# Altium schematic symbol library RPSLib_PMIC.SchLib: 32 symbols (part 1 of 2)
Pins are listed as number, name and electrical type; pins without a type are passive.

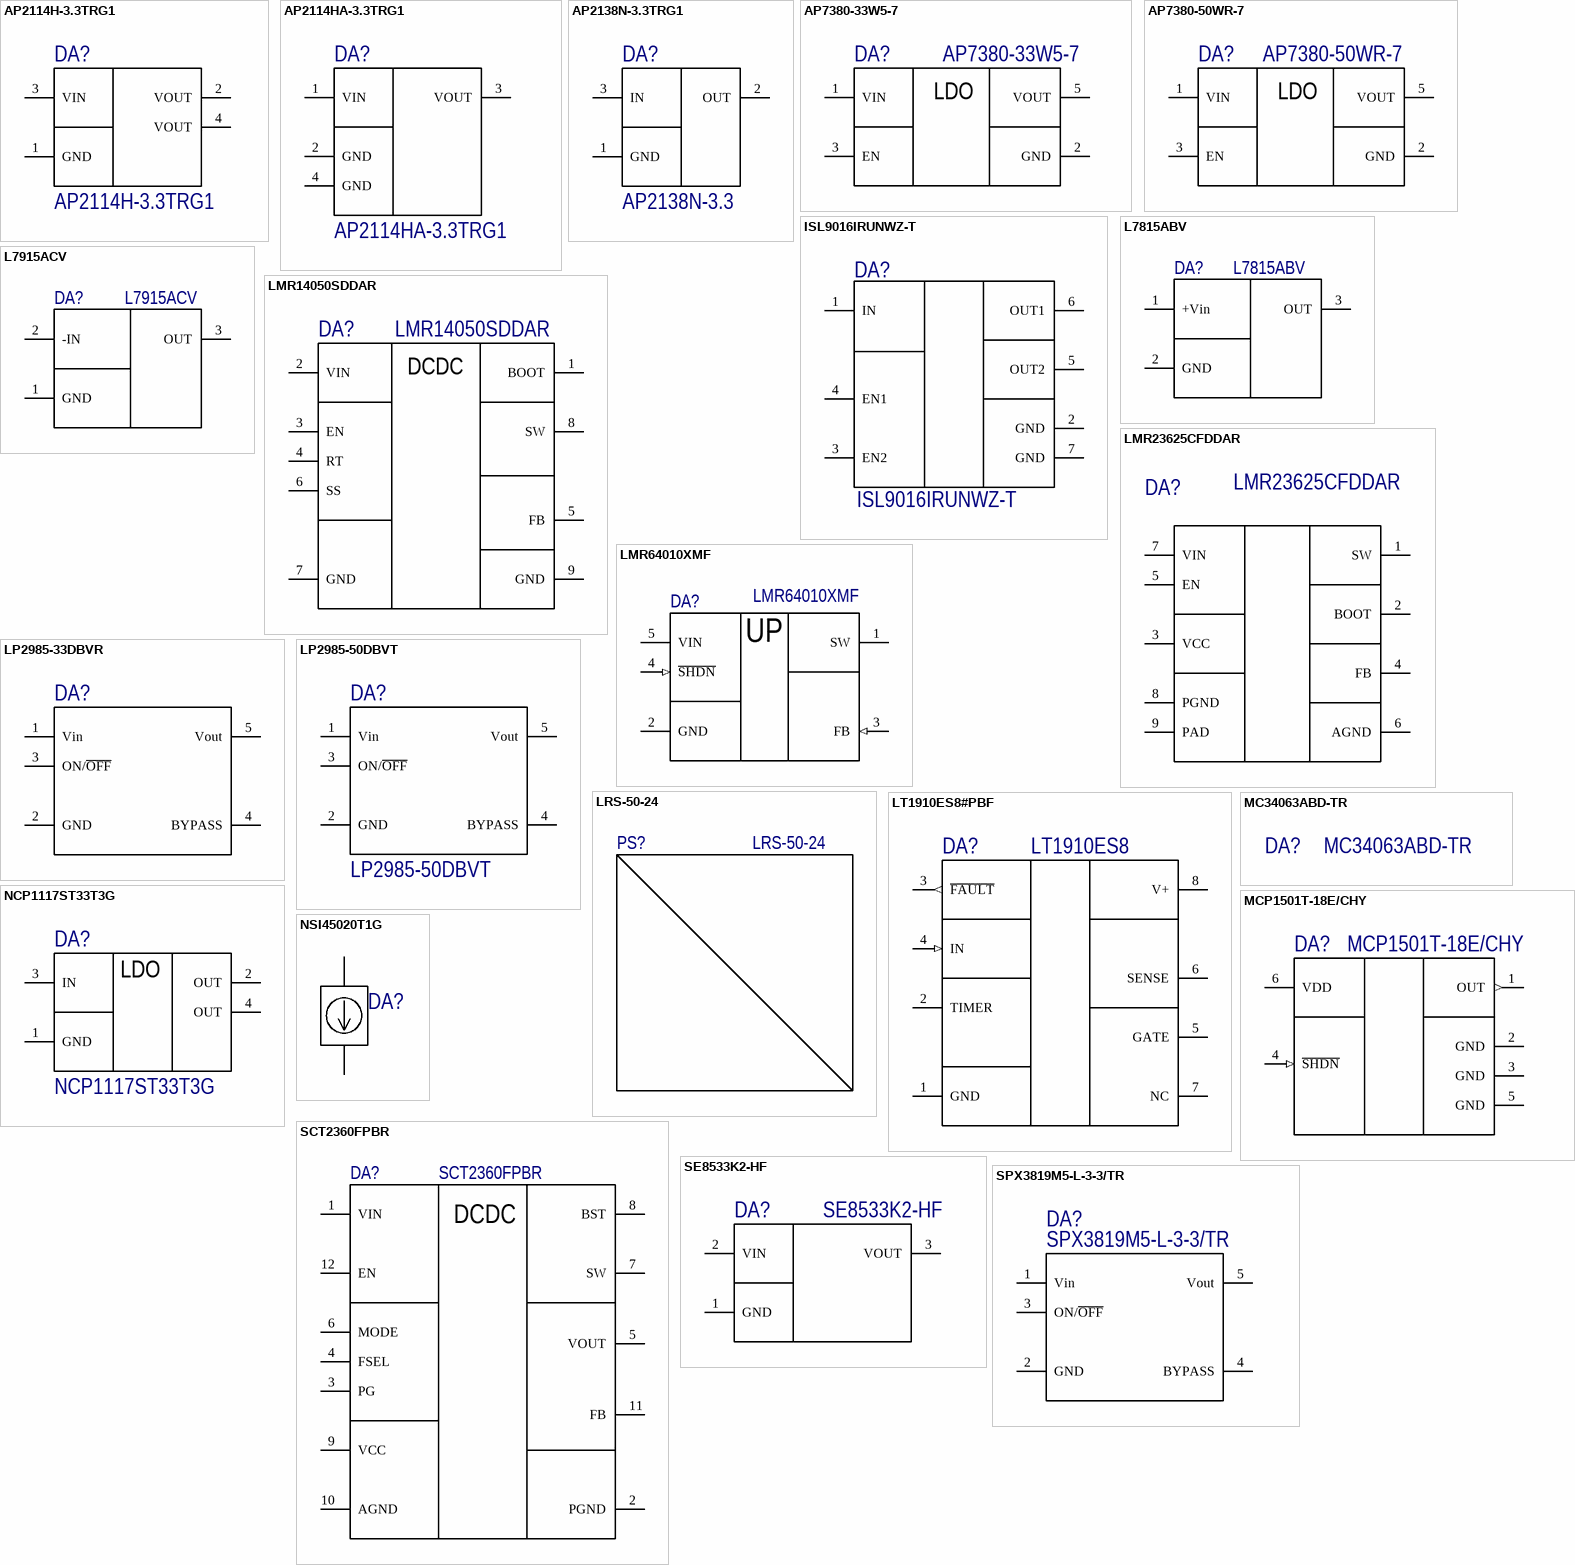
[diagram p0: symbols AP2114H-3.3TRG1 to SPX3819M5-L-3-3/TR]

## AP2114H-3.3TRG1
designator DA?
IC REG LDO 3.3V 1A SOT223; Manufacturer: Diodes; Number of Outputs: 1; Min Input Voltage: 2.5V; Max Input Voltage: 6V; Dropout Voltage: 450mV; Polarity: Positive; Quiescent Current: 65uA; Accuracy: 1.5%; Power Supply Rejection Ratio (PSRR): 65dB; Output Type: Fixed; Supplier 1: Digi-Key; Manufacturer Part Number: AP2114H-3.3TRG1; Stock 1: 59384; Pricing 1: 1=0.36, 10=0.293, 100=0.1994, 500=0.14956, 1000=0.11218 (USD); Mount: Surface Mount; Case/Package: SOT-223; Number of Pins: 3; Weight: 0.000282oz; Min Operating Temperature: -40°C; Max Operating Temperature: 85°C; Packaging: Tape and Reel; Output Voltage: 3.3V; Package Quantity: 4000; Output Current: 1A; Number of Regulators: 1; Max Output Current: 1A; Length: 6.7mm; Height: 1.7mm; Width: 3.7mm; Lead Free: Lead Free; Supplier Part Number 1: AP2114H-3.3TRG1DICT-ND; РКД Наименование: *
footprint SOT230P700X180-4N (SOT223, 4-Leads, Body 6,50x7,00mm (avg), Pitch 2,30mm, IPC Medium Density)
pins: 1 GND, 2 VOUT, 3 VIN, 4 VOUT

## AP2114HA-3.3TRG1
designator DA?
IC REG LDO 3.3V 1A SOT223; Manufacturer: Diodes; Dropout Voltage: 450mV; Number of Regulators: 1; Polarity: Positive; Quiescent Current: 90uA; Accuracy: 1.5%; Min Input Voltage: 2.5V; Max Input Voltage: 6V; Output Type: Fixed; Supplier 1: Digi-Key; Manufacturer Part Number: AP2114HA-3.3TRG1; Stock 1: 1692; Pricing 1: 1=0.36, 10=0.293, 100=0.1994, 500=0.14956, 1000=0.11218 (USD); Mount: Surface Mount; Case/Package: TO-261-4; Number of Pins: 3; Contact Plating: Tin; Min Operating Temperature: -40°C; Max Operating Temperature: 85°C; Packaging: Tape and Reel; Package Quantity: 4000; Output Voltage: 3.3V; Output Current: 1A; Max Output Current: 1A; Number of Outputs: 1; Supplier Part Number 1: AP2114HA-3.3TRG1DICT-ND; РКД Наименование: *
footprint SOT230P700X180-4N (SOT223, 4-Leads, Body 6,50x7,00mm (avg), Pitch 2,30mm, IPC Medium Density)
pins: 1 VIN, 2 GND, 3 VOUT, 4 GND

## AP2138N-3.3TRG1
designator DA?, comment AP2138N-3.3
IC REG LINEAR 3.3V 250MA SOT23-3; Manufacturer: Diodes; Manufacturer Part Number: AP2138N-3.3TRG1; Number of Outputs: 1; Min Input Voltage: 2.5V; Max Input Voltage: 6.6V; Dropout Voltage: 400mV; Quiescent Current: 1uA; Polarity: Positive; Accuracy: 2%; Output Type: Fixed; Supplier 1: Digi-Key; RoHS: Yes; Category: Voltage Regulators - Linear; Stock 1: 158339; Pricing 1: 1=0,36000, 10=0,28800, 25=0,26400, 100=0,17790, 250=0,14728, 500=0,13500, 1000=0,10124 (USD); Mount: Surface Mount; Case/Package: SOT-23-3; Number of Pins: 3; Weight: 0.000282oz; Min Operating Temperature: -40°C; Max Operating Temperature: 85°C; Packaging: Tape and Reel; Output Voltage: 3.3V; Package Quantity: 3000; Output Current: 250mA; Number of Regulators: 1; Max Output Current: 250mA; Length: 3.02mm; Height: 1.3mm; Width: 1.7mm; Lead Free: Lead Free; ComponentLink1URL: https://datasheet.ciiva.com/29568/ap2138-9-29568816.pdf?src-supplier=Digi-Key; ComponentLink1Description: https://datasheet.ciiva.com/29568/ap2138-9-29568816.pdf?src-supplier=Digi-Key; ComponentLink2URL: https://datasheet.ciiva.com/30016/ap2138-9-30016777.pdf?src-supplier=Avnet; ComponentLink2Description: https://datasheet.ciiva.com/30016/ap2138-9-30016777.pdf?src-supplier=Avnet; ComponentLink3URL: https://datasheet.ciiva.com/29569/ap2138-9-29569022.pdf?src-supplier=Digi-Key; ComponentLink3Description: https://datasheet.ciiva.com/29569/ap2138-9-29569022.pdf?src-supplier=Digi-Key; ComponentLink4URL: https://datasheet.ciiva.com/29569/ap2138-9-29569023.pdf?src-supplier=Digi-Key; ComponentLink4Description: https://datasheet.ciiva.com/29569/ap2138-9-29569023.pdf?src-supplier=Digi-Key; Supplier Part Number 1: AP2138N-3.3TRG1DICT-ND
footprint SOT95P232X100-3N (SOT23, 3-Leads, Body 2.92x2.32mm, Pitch 0.95mm, IPC Medium Density)
pins: 1 GND (power), 2 OUT (power), 3 IN (power)

## AP7380-33W5-7
designator DA?
IC REG LINEAR 3.3V 150MA SOT25; Manufacturer: Diodes; Output Type: Fixed; Output Configuration: Positive; Number of Regulators: 1; Max Input Voltage: 24V; Dropout Voltage: 1.5V; Quiescent Current: 3uA; Supplier 1: Digi-Key; Manufacturer Part Number: AP7380-33W5-7; RoHS: No; Stock 1: 13904; Pricing 1: 1=0,42000, 10=0,34400, 25=0,31480, 100=0,21240, 250=0,17576, 500=0,16110, 1000=0,12083 (USD); Mount: Surface Mount; Case/Package: SOT-25; Min Operating Temperature: -40°C; Max Operating Temperature: 125°C; Packaging: Cut Tape; Min Output Voltage: 3.3V; Output Current: 150mA; Max Supply Current: 3uA; ComponentLink1URL: https://www.diodes.com/assets/Datasheets/AP7380.pdf?src-supplier=Digi-Key; ComponentLink1Description: https://www.diodes.com/assets/Datasheets/AP7380.pdf?src-supplier=Digi-Key; Supplier Part Number 1: AP7380-33W5-7DICT-ND
footprint SOT95P285X130-5N (SOT23, 5-Leads, Body 2,95x2,85mm, Pitch 0,95mm, IPC Medium Density)
pins: 1 VIN, 2 GND, 3 EN, 5 VOUT
text: LDO

## AP7380-50WR-7
designator DA?
IC REG LINEAR 5V 150MA SOT25; Manufacturer: Diodes; Output Type: Fixed; Output Configuration: Positive; Number of Regulators: 1; Max Input Voltage: 24V; Dropout Voltage: 1.1V; Quiescent Current: 3uA; Supplier 1: Digi-Key; Manufacturer Part Number: AP7380-50WR-7; RoHS: No; Stock 1: 8212; Pricing 1: 1=0,42000, 10=0,34400, 25=0,31480, 100=0,21240, 250=0,17576, 500=0,16110, 1000=0,12083 (USD); Mount: Surface Mount; Case/Package: SOT-25; Min Operating Temperature: -40°C; Max Operating Temperature: 125°C; Packaging: Cut Tape; Min Output Voltage: 5V; Output Current: 150mA; Max Supply Current: 3uA; ComponentLink1URL: https://www.diodes.com/assets/Datasheets/AP7380.pdf?src-supplier=Digi-Key; ComponentLink1Description: https://www.diodes.com/assets/Datasheets/AP7380.pdf?src-supplier=Digi-Key; Supplier Part Number 1: AP7380-50WR-7DICT-ND
footprint SOT95P285X130-5N (SOT23, 5-Leads, Body 2,95x2,85mm, Pitch 0,95mm, IPC Medium Density)
pins: 1 VIN, 2 GND, 3 EN, 5 VOUT
text: LDO

## ISL9016IRUNWZ-T
designator DA?
IC REG LINEAR 3.3V/1.2V 6UTDFN, OUT1 - 3.3V, OUT2 - 1.2V; Manufacturer: Intersil; Dropout Voltage: 120mV; Number of Outputs: 2; Min Input Voltage: 1.8V; Max Input Voltage: 6.5V; Output Current: 150mA; Min Current Limit: 175mA; Polarity: Positive; Quiescent Current: 49uA; Accuracy: 0.8%; Power Supply Rejection Ratio (PSRR): 80dB; Output Type: Fixed; Supplier 1: Digi-Key; Stock 1: 2211; Pricing 1: 1=1.22, 10=1.094, 25=1.0384, 100=0.8528, 250=0.79724, 500=0.70452, 1000=0.5562 (USD); Mount: Surface Mount; Number of Pins: 6; Min Operating Temperature: -40°C; Max Operating Temperature: 85°C; Package Quantity: 1; Packaging: Tape and Reel; Output Voltage: 1.2V; Number of Regulators: 2; ComponentLink1URL: http://www.intersil.com/content/dam/Intersil/documents/isl9/isl9016.pdf?src-supplier=Digi-Key; ComponentLink1Description: http://www.intersil.com/content/dam/Intersil/documents/isl9/isl9016.pdf?src-supplier=Digi-Key; ComponentLink2URL: http://www.intersil.com/content/dam/Intersil/documents/isl9/isl9016.pdf?src-supplier=Avnet; ComponentLink2Description: http://www.intersil.com/content/dam/Intersil/documents/isl9/isl9016.pdf?src-supplier=Avnet; Manufacturer Part Number: ISL9016IRUNWZ-T; Supplier Part Number 1: ISL9016IRUNWZ-TCT-ND
footprint SON50P160X55_HS-7N (SON, 6-Leads, Body 1,60x1,60mm, Pitch 0,50mm, Thermal Pad 1,00x0,43mm, IPC Medium Density)
pins: 1 IN, 2 GND, 3 EN2, 4 EN1, 5 OUT2, 6 OUT1, 7 GND

## L7815ABV
designator DA?
IC, V REG +15V, 7815, TO-220-3; Fixed Output Voltage Nom.: 15V; Adjustable Min: -; Max: -; Input; Manufacturer: STMicroelectronics; Number of Channels: 1NUMBER; Supplier 1: Digikey; Manufacturer Part Number: L7815ABV; RoHS: Yes; Category: Voltage Regulators - Linear; Stock 1: 712; Pricing 1: 1=0,74, 10=0,648, 50=0,6086, 100=0,4968, 250=0,4614, 500=0,39268, 1000=0,31415, 2500=0,2847, 5000=0,26506 (USD); ComponentLink1URL: https://datasheet.ciiva.com/27052/1389839-27052159.pdf?src-supplier=Jameco; ComponentLink1Description: https://datasheet.ciiva.com/27052/1389839-27052159.pdf?src-supplier=Jameco; ComponentLink2URL: https://datasheet.ciiva.com/4882/cd00000444-4882358.pdf?src-supplier=Mouser; ComponentLink2Description: https://datasheet.ciiva.com/4882/cd00000444-4882358.pdf?src-supplier=Mouser; ComponentLink3URL: https://datasheet.ciiva.com/1511/1805459-1511928.pdf?src-supplier=Element14; ComponentLink3Description: https://datasheet.ciiva.com/1511/1805459-1511928.pdf?src-supplier=Element14; ComponentLink4URL: https://datasheet.ciiva.com/15111/getdatasheetpartid-85268-15111499.pdf?src-supplier=Verical; ComponentLink4Description: https://datasheet.ciiva.com/15111/getdatasheetpartid-85268-15111499.pdf?src-supplier=Verical; ComponentLink5URL: https://datasheet.ciiva.com/16389/cd00000444-16389052.pdf?src-supplier=Future+Electronics; ComponentLink5Description: https://datasheet.ciiva.com/16389/cd00000444-16389052.pdf?src-supplier=Future+Electronics; ComponentLink6URL: https://datasheet.ciiva.com/2044/cd00000444-2044535.pdf?src-supplier=Digikey; ComponentLink6Description: https://datasheet.ciiva.com/2044/cd00000444-2044535.pdf?src-supplier=Digikey; ComponentLink7URL: https://datasheet.ciiva.com/41441/001185948-da-01-en-ic-reg-ldo-15v-1-5-l7815abv-to-220-3-stm-41441116.pdf?src-supplier=Conrad; ComponentLink7Description: https://datasheet.ciiva.com/41441/001185948-da-01-en-ic-reg-ldo-15v-1-5-l7815abv-to-220-3-stm-41441116.pdf?src-supplier=Conrad; Supplier Part Number 1: 497-8352-5-ND
footprint TO220-3N (TO220, 3-Leads, Pitch 1.8mm, IPC Medium Density)
pins: 1 +Vin, 2 GND, 3 OUT

## L7915ACV
designator DA?
Standard Regulator Neg -15V 1.5A 3-Pin(3+Tab) TO-220AB Tube; Manufacturer: STMicroelectronics; Number of Channels: 1NUMBER; Supplier 1: Digikey; Manufacturer Part Number: L7915ACV; RoHS: Yes; Category: Voltage Regulators - Linear; Stock 1: 1490; Pricing 1: 1=0,92, 10=0,812, 50=0,7624, 100=0,6222, 250=0,57796, 500=0,49188, 1000=0,3935, 2500=0,3566, 5000=0,33201 (USD); ComponentLink1URL: https://datasheet.ciiva.com/1511/1861950-1511995.pdf?src-supplier=Element14; ComponentLink1Description: https://datasheet.ciiva.com/1511/1861950-1511995.pdf?src-supplier=Element14; ComponentLink2URL: https://datasheet.ciiva.com/4881/cd00000450-4881846.pdf?src-supplier=Mouser; ComponentLink2Description: https://datasheet.ciiva.com/4881/cd00000450-4881846.pdf?src-supplier=Mouser; ComponentLink3URL: https://datasheet.ciiva.com/2044/cd00000451-2044293.pdf?src-supplier=Digikey; ComponentLink3Description: https://datasheet.ciiva.com/2044/cd00000451-2044293.pdf?src-supplier=Digikey; ComponentLink4URL: https://datasheet.ciiva.com/16360/cd00000451-16360455.pdf?src-supplier=Future+Electronics; ComponentLink4Description: https://datasheet.ciiva.com/16360/cd00000451-16360455.pdf?src-supplier=Future+Electronics; ComponentLink5URL: https://datasheet.ciiva.com/14561/70013922-14561974.pdf?src-supplier=Allied+Electronics; ComponentLink5Description: https://datasheet.ciiva.com/14561/70013922-14561974.pdf?src-supplier=Allied+Electronics; Supplier Part Number 1: 497-1477-5-ND
footprint TO220-3N (TO220, 3-Leads, Pitch 1.8mm, IPC Medium Density)
pins: 1 GND, 2 -IN, 3 OUT

## LMR14050SDDAR
designator DA?
IC REG BUCK ADJ 5A; Manufacturer: Texas Instruments; Quiescent Current: 40uA; Supplier 1: Digi-Key; Manufacturer Part Number: LMR14050SDDAR; RoHS: Yes; Category: Voltage Regulators - Switching; Stock 1: 2989; Pricing 1: 1=2,88000, 10=2,58900, 25=2,44720, 100=2,01220, 250=1,80556, 500=1,74028, 1000=1,44661 (USD); Min Operating Temperature: -40°C; Max Operating Temperature: 125°C; Lead Free: Lead Free; ComponentLink1URL: http://www.ti.com/general/docs/lit/getliterature.tsp?genericPartNumber=LMR14050&&fileType=pdf&src-supplier=Avnet; ComponentLink1Description: http://www.ti.com/general/docs/lit/getliterature.tsp?genericPartNumber=LMR14050&&fileType=pdf&src-supplier=Avnet; ComponentLink2URL: http://www.ti.com/lit/ds/symlink/lmr14050.pdf?src-supplier=Digi-Key; ComponentLink2Description: http://www.ti.com/lit/ds/symlink/lmr14050.pdf?src-supplier=Digi-Key; Supplier Part Number 1: 296-44322-1-ND
footprint SOIC127P600X170_HS-9N (SOIC, 8-Leads, Body 4,90x3,90mm, Pitch 1,27mm, Thermal Pad 3,10x2,40mm, IPC Medium Density)
pins: 1 BOOT, 2 VIN (power), 3 EN, 4 RT, 5 FB, 6 SS, 7 GND (power), 8 SW, 9 GND (power)
text: DCDC

## LMR23625CFDDAR
designator DA?
IC REG BUCK ADJ 2.5A SYNC 8SOPWR; Manufacturer: Texas Instruments; Quiescent Current: 75uA; Supplier 1: Digi-Key; Manufacturer Part Number: LMR23625CFDDAR; Stock 1: 5669; Pricing 1: 1=3,24000, 10=2,91200, 100=2,26370, 500=1,95782, 1000=1,62744 (USD); RoHS: No; Min Operating Temperature: -40°C; Max Operating Temperature: 125°C; Lead Free: Lead Free; ComponentLink1URL: http://www.ti.com/lit/ds/symlink/lmr23625.pdf?src-supplier=Digi-Key; ComponentLink1Description: http://www.ti.com/lit/ds/symlink/lmr23625.pdf?src-supplier=Digi-Key; ComponentLink2URL: http://www.ti.com/general/docs/suppproductinfo.tsp?distId=10&amp;gotoUrl=http%3A%2F%2Fwww.ti.com%2Flit%2Fgpn%2Flmr23625&src-supplier=Digi-Key; ComponentLink2Description: http://www.ti.com/general/docs/suppproductinfo.tsp?distId=10&amp;gotoUrl=http%3A%2F%2Fwww.ti.com%2Flit%2Fgpn%2Flmr23625&src-supplier=Digi-Key; Supplier Part Number 1: 296-47269-1-ND
footprint SOIC127P600X170_HS-9N (SOIC, 8-Leads, Body 4,90x3,90mm, Pitch 1,27mm, Thermal Pad 3,10x2,40mm, IPC Medium Density)
pins: 1 SW, 2 BOOT, 3 VCC, 4 FB, 5 EN, 6 AGND, 7 VIN, 8 PGND, 9 PAD

## LMR64010XMF
designator DA?
SIMPLE SWITCHER® 2.7V to 14V, 1A Step-Up Regulator in SOT-23 Package 5-SOT-23 -40 to 125; Manufacturer: TI National Semiconductor; Manufacturer Part Number: LMR64010XMFE/NOPB; Output Voltage: 40V; Switching Frequency: 1.6MHz; Number of Outputs: 1; Min Output Voltage: 3V; Topology: Boost; Quiescent Current: 2.1mA; Output Type: Adjustable; Synchronous Rectifier: No; Output Configuration: Positive; Supplier 1: Digi-Key; RoHS: Yes; Category: Voltage Regulators - Switching; Stock 1: 336; Pricing 1: 1=2,18000, 10=1,95800, 25=1,84720, 100=1,57370 (USD); Case/Package: SOT-23-5; Number of Pins: 5; Contact Plating: Tin,Gold,Matte; Weight: 0.000459oz; Min Operating Temperature: -40°C; Max Operating Temperature: 125°C; Packaging: Tape and Reel; Max Input Voltage: 14V; Output Current: 1A; Min Input Voltage: 2.7V; Package Quantity: 250; Max Output Current: 1A; Max Output Voltage: 40V; Series: SIMPLE SWITCHER®; Length: 3.05mm; Width: 1.75mm; Height: 1.3mm; Radiation Hardening: No; REACH SVHC: No SVHC; Lead Free: Lead Free; RoHS Compliant: Yes; Supplier Part Number 1: LMR64010XMFE/NOPBCT-ND
footprint SOT95P280X145-5N (SOT23, 5-Leads, Body 2.90x2.80mm, Pitch 0.95mm, IPC Medium Density)
pins: 1 SW, 2 GND (power), 3 FB (in), 4 ~{SHDN} (in), 5 VIN (power)
text: UP

## LP2985-33DBVR
designator DA?  (value not drawn)
IC REG LDO 3.3V 0.15A SOT23-5; Manufacturer: Texas Instruments; Number of Outputs: 1; Min Input Voltage: 2.2V; Max Input Voltage: 16V; Max Output Current: 150mA; Polarity: Positive; Output Type: Fixed; Dropout Voltage: 280mV; Input Bias Current: 850uA; Accuracy: 1.5%; РКД Наименование: LP2985-33DBVR - LDO 3.3 V, 150 mA, SOT-23; PartNo: *; Supplier 1: Digi-Key; Manufacturer Part Number: LP2985-33DBVR; Stock 1: 139813; Pricing 1: 1=0.6, 10=0.527, 100=0.4039, 500=0.3193, 1000=0.25544 (USD); Case/Package: SOT-23; Number of Pins: 5; Contact Plating: Matte,Tin; Min Operating Temperature: -40°C; Max Operating Temperature: 125°C; Output Voltage: 3.3V; Packaging: Tape and Reel; Package Quantity: 1; Output Current: 150mA; Number of Regulators: 1; Output Voltage Accuracy: 1.5%; Quiescent Current: 850uA; Nominal Output Voltage: 3.3V; Radiation Hardening: No; Lead Free: Lead Free; REACH SVHC: No SVHC; Supplier Part Number 1: 296-18476-1-ND
footprint SOT95P280X145-5N (SOT23, 5-Leads, Body 2.90x2.80mm, Pitch 0.95mm, IPC Medium Density)
pins: 1 Vin, 2 GND, 3 ON/~{OFF}, 4 BYPASS, 5 Vout

## LP2985-50DBVT
designator DA?
IC REG LINEAR 5V 150MA SOT23-5; Manufacturer: Texas Instruments; Dropout Voltage: 280mV; Max Input Voltage: 16V; Min Input Voltage: 2.2V; Number of Outputs: 1; Input Bias Current: 850uA; Polarity: Positive; Output Voltage Accuracy: 1.5%; Output Type: Fixed; Supplier 1: Digi-Key; Manufacturer Part Number: LP2985-50DBVT; RoHS: Yes; Category: Voltage Regulators - Linear; Stock 1: 2067; Pricing 1: 1=0,61000, 10=0,52500, 25=0,48960, 100=0,36380 (USD); Case/Package: SOT-23; Number of Pins: 5; Contact Plating: Tin,Matte; Min Operating Temperature: -40°C; Max Operating Temperature: 125°C; Output Voltage: 5V; Output Current: 150mA; Nominal Output Voltage: 5V; Package Quantity: 1; Max Output Current: 150mA; Packaging: Tape and Reel; Number of Regulators: 1; Quiescent Current: 850uA; Accuracy: 1.5%; Series: -; Length: 2.9mm; Width: 1.6mm; Height: 1.15mm; REACH SVHC: No SVHC; Lead Free: Lead Free; RoHS Compliant: Yes; ComponentLink1URL: https://datasheet.ciiva.com/2061/lp2985-18-2061709.pdf?src-supplier=Digi-Key; ComponentLink1Description: https://datasheet.ciiva.com/2061/lp2985-18-2061709.pdf?src-supplier=Digi-Key; ComponentLink2URL: https://datasheet.ciiva.com/2061/lp2985-18-2061710.pdf?src-supplier=Digi-Key; ComponentLink2Description: https://datasheet.ciiva.com/2061/lp2985-18-2061710.pdf?src-supplier=Digi-Key; ComponentLink3URL: https://datasheet.ciiva.com/14279/lp2985a-50-14279950.pdf?src-supplier=Avnet; ComponentLink3Description: https://datasheet.ciiva.com/14279/lp2985a-50-14279950.pdf?src-supplier=Avnet; ComponentLink4URL: https://datasheet.ciiva.com/2061/lp2985-18-2061711.pdf?src-supplier=Digi-Key; ComponentLink4Description: https://datasheet.ciiva.com/2061/lp2985-18-2061711.pdf?src-supplier=Digi-Key; Supplier Part Number 1: 296-26126-1-ND
footprint SOT95P280X145-5N (SOT23, 5-Leads, Body 2.90x2.80mm, Pitch 0.95mm, IPC Medium Density)
pins: 1 Vin, 2 GND, 3 ON/~{OFF}, 4 BYPASS, 5 Vout

## LRS-50-24
designator PS?
MeanWell блок питания
footprint LRS-50-24

## LT1910ES8#PBF
designator DA?, comment LT1910ES8
LINEAR TECHNOLOGY         LT1910ES8#PBF             MOSFET Driver IC, High Side, 8V-48V Supply, 40mA Out, 25 s Delay, SOIC-8; Manufacturer: Analog Devices / Linear Technology; Number of Outputs: 1; Min Supply Voltage: 8V; Max Supply Voltage: 48V; Turn-Off Delay Time: 100us; Turn-On Delay Time: 400us; Reference Voltage: 65mV; Max Supply Current: 2.5mA; Supplier 1: Digi-Key; Manufacturer Part Number: LT1910ES8#PBF; RoHS: Yes; Category: Gate Drivers; Stock 1: 6185; Pricing 1: 1=4,97000, 25=3,30160, 100=2,73000 (USD); Case/Package: SOIC; Number of Pins: 8; Min Operating Temperature: -40°C; Max Operating Temperature: 85°C; Package Quantity: 100; Max Output Current: 40mA; Packaging: Rail/Tube; Number of Drivers: 1; Length: 5mm; Height: 1.498mm; Width: 3.998mm; Radiation Hardening: No; REACH SVHC: No SVHC; Lead Free: Lead Free; ComponentLink1URL: https://datasheet.ciiva.com/15110/getdatasheetpartid-367278-15110233.pdf?src-supplier=Verical; ComponentLink1Description: https://datasheet.ciiva.com/15110/getdatasheetpartid-367278-15110233.pdf?src-supplier=Verical; ComponentLink2URL: https://datasheet.ciiva.com/25626/0900766b810ed968-25626635.pdf?src-supplier=RSComponents; ComponentLink2Description: https://datasheet.ciiva.com/25626/0900766b810ed968-25626635.pdf?src-supplier=RSComponents; ComponentLink3URL: https://datasheet.ciiva.com/19477/1742057-19477567.pdf?src-supplier=Jameco; ComponentLink3Description: https://datasheet.ciiva.com/19477/1742057-19477567.pdf?src-supplier=Jameco; ComponentLink4URL: https://datasheet.ciiva.com/1949/3996-1949938.pdf?src-supplier=Digi-Key; ComponentLink4Description: https://datasheet.ciiva.com/1949/3996-1949938.pdf?src-supplier=Digi-Key; ComponentLink5URL: https://datasheet.ciiva.com/1607/1843994-1607510.pdf?src-supplier=Newark; ComponentLink5Description: https://datasheet.ciiva.com/1607/1843994-1607510.pdf?src-supplier=Newark; ComponentLink6URL: https://datasheet.ciiva.com/1500/1843994-1500201.pdf?src-supplier=Element14; ComponentLink6Description: https://datasheet.ciiva.com/1500/1843994-1500201.pdf?src-supplier=Element14; ComponentLink7URL: https://datasheet.ciiva.com/7653/1843994-7653036.pdf?src-supplier=Element14; ComponentLink7Description: https://datasheet.ciiva.com/7653/1843994-7653036.pdf?src-supplier=Element14; ComponentLink8URL: https://datasheet.ciiva.com/48696/001255925-da-01-en-ic-mosfet-drive-lt1910es8-pbf-soic-8-ltc-48696183.pdf?src-supplier=Conrad; ComponentLink8Description: https://datasheet.ciiva.com/48696/001255925-da-01-en-ic-mosfet-drive-lt1910es8-pbf-soic-8-ltc-48696183.pdf?src-supplier=Conrad; Supplier Part Number 1: LT1910ES8#PBF-ND
footprint SOIC127P600X175-8N (SOIC, 8-Leads, Body 4.90x3.90mm, Pitch 1.27mm, IPC Medium Density)
pins: 1 GND (power), 2 TIMER, 3 ~{FAULT} (out), 4 IN (in), 5 GATE, 6 SENSE, 7 NC, 8 V+ (power)

## MC34063ABD-TR
designator DA?
Buck, Boost Switching Regulator IC Positive or Negative Adjustable 1.25V 1 Output 1.5A (Switch) 8-SOIC (0.154, 3.90mm Width); Manufacturer: STMicroelectronics; Number of Outputs: 1; Efficiency: 89%; Min Input Voltage: 3V; Switching Frequency: 100kHz; Synchronous Rectifier: No; Power Dissipation: 625mW; Input Current: 2.5mA; Output Type: Adjustable,Fixed; Max Input Voltage: 40V; Max Output Voltage: 38V; Supplier 1: Digi-Key; Manufacturer Part Number: MC34063ABD-TR; RoHS: Yes; Category: Voltage Regulators - Switching; Stock 1: 383; Pricing 1: 1=0,90000, 10=0,80400, 25=0,76280, 100=0,62660, 250=0,58572, 500=0,51760, 1000=0,44975 (USD); Mount: Surface Mount; Case/Package: SO; Number of Pins: 8; Min Operating Temperature: -40°C; Max Operating Temperature: 85°C; Packaging: Tape and Reel; Output Voltage: 1.25V; Output Current: 1.5A; Package Quantity: 1; Series: -; Max Output Current: 1.5A; Max Supply Voltage: 40V; Min Output Voltage: 1.25V; Switching Frequency-Max: 100kHz; Length: 5mm; Width: 4mm; Height: 1.25mm; Radiation Hardening: No; REACH SVHC: No SVHC; Lead Free: Lead Free; RoHS Compliant: Yes; ComponentLink1URL: https://datasheet.ciiva.com/7994/1723944-7994091.pdf?src-supplier=Element14; ComponentLink1Description: https://datasheet.ciiva.com/7994/1723944-7994091.pdf?src-supplier=Element14; ComponentLink2URL: https://datasheet.ciiva.com/5820/1723944-5820156.pdf?src-supplier=Farnell; ComponentLink2Description: https://datasheet.ciiva.com/5820/1723944-5820156.pdf?src-supplier=Farnell; ComponentLink3URL: https://datasheet.ciiva.com/7994/1723944-7994103.pdf?src-supplier=Element14; ComponentLink3Description: https://datasheet.ciiva.com/7994/1723944-7994103.pdf?src-supplier=Element14; ComponentLink4URL: https://datasheet.ciiva.com/7994/1723944-7994090.pdf?src-supplier=Element14; ComponentLink4Description: https://datasheet.ciiva.com/7994/1723944-7994090.pdf?src-supplier=Element14; ComponentLink5URL: https://datasheet.ciiva.com/2025/cd00001232-2025159.pdf?src-supplier=Digi-Key; ComponentLink5Description: https://datasheet.ciiva.com/2025/cd00001232-2025159.pdf?src-supplier=Digi-Key; ComponentLink6URL: https://datasheet.ciiva.com/2025/cd00001232-2025158.pdf?src-supplier=Digi-Key; ComponentLink6Description: https://datasheet.ciiva.com/2025/cd00001232-2025158.pdf?src-supplier=Digi-Key; ComponentLink7URL: https://datasheet.ciiva.com/2025/cd00001232-2025160.pdf?src-supplier=Digi-Key; ComponentLink7Description: https://datasheet.ciiva.com/2025/cd00001232-2025160.pdf?src-supplier=Digi-Key; ComponentLink8URL: https://datasheet.ciiva.com/4904/cd00001232-4904856.pdf?src-supplier=Mouser; ComponentLink8Description: https://datasheet.ciiva.com/4904/cd00001232-4904856.pdf?src-supplier=Mouser; ComponentLink9URL: https://datasheet.ciiva.com/16446/cd00001232-16446142.pdf?src-supplier=Future+Electronics; ComponentLink9Description: https://datasheet.ciiva.com/16446/cd00001232-16446142.pdf?src-supplier=Future+Electronics; ComponentLink10URL: https://datasheet.ciiva.com/17297/cd00001232-17297032.pdf?src-supplier=Avnet+Europe; ComponentLink10Description: https://datasheet.ciiva.com/17297/cd00001232-17297032.pdf?src-supplier=Avnet+Europe; Supplier Part Number 1: 497-7849-1-ND

## MCP1501T-18E/CHY
designator DA?
V-Ref Precision 1.8V 20mA 6-Pin SOT-23 T/R; Manufacturer: Microchip; Supplier 1: Digi-Key; Manufacturer Part Number: MCP1501T-18E/CHY; RoHS: Yes; Category: Voltage References; Stock 1: 5052; Pricing 1: 1=0,76000, 25=0,63000, 100=0,58000 (USD); ComponentLink1URL: http://www.microchip.com/mymicrochip/filehandler.aspx?ddocname=en584595&src-supplier=Digi-Key; ComponentLink1Description: http://www.microchip.com/mymicrochip/filehandler.aspx?ddocname=en584595&src-supplier=Digi-Key; Supplier Part Number 1: MCP1501T-18E/CHYCT-ND
footprint SOT95P280X145-6N (SOT23, 6-Leads, Body 2.92x2.80mm, Pitch 0.95mm, IPC Medium Density)
pins: 1 OUT (out), 2 GND (power), 3 GND (power), 4 ~{SHDN} (in), 5 GND (power), 6 VDD (power)

## NCP1117ST33T3G
designator DA?
ON SEMICONDUCTOR - NCP1117ST33T3G - Fixed LDO Voltage Regulator, 3.5V to 20V In, 1.07V Dropout, 3.3V/1A Out, SOT-223-3; Output Voltage: 3.3V; Number of Outputs: 1; Output Current: 1A; Max Supply Voltage: 15V; Min Supply Voltage: 4.75V; Input Bias Current: 6mA; Quiescent Current: 10mA; Polarity: Positive; Reference Voltage: 1.25V; Accuracy: 1%; Supplier 1: Digi-Key; Manufacturer: ON Semiconductor; Manufacturer Part Number: NCP1117ST33T3G; RoHS: Yes; Category: Voltage Regulators - Linear; Stock 1: 38312; Pricing 1: 1=0,46000, 10=0,39200, 25=0,36560, 100=0,27170, 250=0,22992, 500=0,21946, 1000=0,16198 (USD); Mount: Surface Mount; Case/Package: SOT-223; Number of Pins: 3; Contact Plating: Tin,Matte; Min Operating Temperature: 0°C; Max Operating Temperature: 125°C; Output Type: Fixed; Max Input Voltage: 20V; Packaging: Tape and Reel; Dropout Voltage: 1.07V; Max Output Current: 1A; Package Quantity: 1; Min Input Voltage: 3.5V; Nominal Output Voltage: 3.3V; Number of Regulators: 1; Min Current Limit: 1A; Min Output Voltage: 3.3V; Max Output Voltage: 3.3V; Termination: SMD/SMT; Output Voltage Accuracy: 1%; Length: 6.7mm; Height: 1.69mm; Width: 3.7mm; Radiation Hardening: No; REACH SVHC: No SVHC; Lead Free: Lead Free; Halogen Free: Halogen Free; ComponentLink1URL: https://datasheet.ciiva.com/3224/ncp1117-d-3224144.pdf?src-supplier=Avnet; ComponentLink1Description: https://datasheet.ciiva.com/3224/ncp1117-d-3224144.pdf?src-supplier=Avnet; ComponentLink2URL: https://datasheet.ciiva.com/22697/1726422-22697602.pdf?src-supplier=Element14; ComponentLink2Description: https://datasheet.ciiva.com/22697/1726422-22697602.pdf?src-supplier=Element14; ComponentLink3URL: https://datasheet.ciiva.com/15111/getdatasheetpartid-82718-15111483.pdf?src-supplier=Verical; ComponentLink3Description: https://datasheet.ciiva.com/15111/getdatasheetpartid-82718-15111483.pdf?src-supplier=Verical; ComponentLink4URL: https://datasheet.ciiva.com/2042/ncp1117-d-2042028.pdf?src-supplier=Digi-Key; ComponentLink4Description: https://datasheet.ciiva.com/2042/ncp1117-d-2042028.pdf?src-supplier=Digi-Key; ComponentLink5URL: https://datasheet.ciiva.com/8233/ncp1117-d-8233589.pdf?src-supplier=Avnet; ComponentLink5Description: https://datasheet.ciiva.com/8233/ncp1117-d-8233589.pdf?src-supplier=Avnet; ComponentLink6URL: https://datasheet.ciiva.com/2042/ncp1117-d-2042027.pdf?src-supplier=Digi-Key; ComponentLink6Description: https://datasheet.ciiva.com/2042/ncp1117-d-2042027.pdf?src-supplier=Digi-Key; ComponentLink7URL: https://datasheet.ciiva.com/16382/ncp1117-d-16382636.pdf?src-supplier=Future+Electronics; ComponentLink7Description: https://datasheet.ciiva.com/16382/ncp1117-d-16382636.pdf?src-supplier=Future+Electronics; ComponentLink8URL: https://datasheet.ciiva.com/8073/1726422-8073735.pdf?src-supplier=Element14; ComponentLink8Description: https://datasheet.ciiva.com/8073/1726422-8073735.pdf?src-supplier=Element14; ComponentLink9URL: https://datasheet.ciiva.com/28483/1748260-28483307.pdf?src-supplier=Element14; ComponentLink9Description: https://datasheet.ciiva.com/28483/1748260-28483307.pdf?src-supplier=Element14; ComponentLink10URL: https://datasheet.ciiva.com/2042/ncp1117-d-2042029.pdf?src-supplier=Digi-Key; ComponentLink10Description: https://datasheet.ciiva.com/2042/ncp1117-d-2042029.pdf?src-supplier=Digi-Key; Supplier Part Number 1: NCP1117ST33T3GOSCT-ND
footprint SOT230P700X180-4N (SOT223, 4-Leads, Body 6,50x7,00mm (avg), Pitch 2,30mm, IPC Medium Density)
pins: 1 GND (power), 2 OUT, 3 IN, 4 OUT
text: LDO

## NSI45020T1G
designator DA?  (value not drawn)
Current Regulator Regulator High/Low-Side 20mA SOD-123; Manufacturer: ON Semiconductor; Max Power Dissipation: 460mW; Max Supply Current: 23mA; Number of Segments: 10; Number of Outputs: 1; Max Input Voltage: 45V; Accuracy: 15%; Supplier 1: Digi-Key; Manufacturer Part Number: NSI45020T1G; RoHS: Yes; Category: LED Drivers; Stock 1: 10906; Pricing 1: 1=0,43000, 10=0,36700, 25=0,34280, 100=0,27420, 250=0,25464, 500=0,21548, 1000=0,16650 (USD); Mount: Surface Mount; Number of Pins: 2; Weight: 0.001058oz; Min Operating Temperature: -55°C; Max Operating Temperature: 150°C; Packaging: Cut Tape; Package Quantity: 3000; Power Dissipation: 460mW; Output Current: 20mA; Output Current per Channel: 20mA; Series: NSI45020; Length: 2.69mm; Width: 1.6mm; Height: 1.12mm; Radiation Hardening: No; REACH SVHC: No SVHC; Lead Free: Lead Free; Halogen Free: Halogen Free; RoHS Compliant: Yes; ComponentLink1URL: https://datasheet.ciiva.com/4427/nsi45020-d-97500-4427031.pdf?src-supplier=Mouser; ComponentLink1Description: https://datasheet.ciiva.com/4427/nsi45020-d-97500-4427031.pdf?src-supplier=Mouser; ComponentLink2URL: https://datasheet.ciiva.com/3165/nsi45020-d-3165175.pdf?src-supplier=Avnet; ComponentLink2Description: https://datasheet.ciiva.com/3165/nsi45020-d-3165175.pdf?src-supplier=Avnet; ComponentLink3URL: https://datasheet.ciiva.com/26932/getdatasheetpartid-322869-26932767.pdf?src-supplier=Verical; ComponentLink3Description: https://datasheet.ciiva.com/26932/getdatasheetpartid-322869-26932767.pdf?src-supplier=Verical; ComponentLink4URL: https://datasheet.ciiva.com/26112/nsi45020-d-26112068.pdf?src-supplier=Avnet+Europe; ComponentLink4Description: https://datasheet.ciiva.com/26112/nsi45020-d-26112068.pdf?src-supplier=Avnet+Europe; ComponentLink5URL: https://datasheet.ciiva.com/1947/nsi45020-d-1947547.pdf?src-supplier=Digi-Key; ComponentLink5Description: https://datasheet.ciiva.com/1947/nsi45020-d-1947547.pdf?src-supplier=Digi-Key; ComponentLink6URL: https://datasheet.ciiva.com/1947/nsi45020-d-1947548.pdf?src-supplier=Digi-Key; ComponentLink6Description: https://datasheet.ciiva.com/1947/nsi45020-d-1947548.pdf?src-supplier=Digi-Key; Supplier Part Number 1: NSI45020T1GOSCT-ND
footprint NSI45020 (SOD-123)
pins: 1 C, 2 A

## SCT2360FPBR
designator DA?
4V-28V Vin, 6A Synchronous Step-down DCDC Converter; Manufacturer: SCT; Supplier 1: LCSC; Manufacturer Part Number: SCT2360FPBR; RoHS: No; Category: Uncategorized; Supplier Part Number 1: C2693821
footprint QFN50P300X300X80-12N-SCT2360 (QFN, 12-Leads, Body 3,00x3,00mm, Pitch 0,50mm/1,10mm, IPC Medium Density)
pins: 1 VIN, 2 PGND, 3 PG, 4 FSEL, 5 VOUT, 6 MODE, 7 SW, 8 BST, 9 VCC, 10 AGND, 11 FB, 12 EN
text: DCDC

## SE8533K2-HF
designator DA?
85dB 2μA Fixed 3.3V Positive 1 40V SOT-89 Linear Voltage Regulators (LDO) ROHS; Manufacturer: Seaward; Supplier 1: LCSC; Manufacturer Part Number: SE8533K2-HF; RoHS: No; Stock 1: 24792; Pricing 1: 1=0,17010, 10=0,14050, 30=0,11910, 100=0,10140, 500=0,09840, 1000=0,09690 (USD); Supplier Part Number 1: C115013
footprint SOT89-150P354X160-3N (SOT89, 3-Leads, Body 4,50x2,50mm, Pitch 1,50mm, Lead Span 3,5mm, IPC Medium Density)
pins: 1 GND, 2 VIN, 3 VOUT

## SPX3819M5-L-3-3/TR
designator DA?
IC REG LINEAR 3.3V 500MA SOT23-5; Manufacturer: Exar; Dropout Voltage: 340mV; Number of Outputs: 1; Min Input Voltage: 2.5V; Max Input Voltage: 16V; Polarity: Positive; Quiescent Current: 3uA; Accuracy: 1%; Output Type: Fixed; Min Current Limit: 175mA; Power Supply Rejection Ratio (PSRR): 80dB; Supplier 1: Digi-Key; Stock 1: 74655; Pricing 1: 1=0.57, 10=0.479, 25=0.4196, 100=0.3595, 250=0.3116, 500=0.26364, 1000=0.20373 (USD); Mount: Surface Mount; Case/Package: SOT-23-5; Number of Pins: 5; Min Operating Temperature: -40°C; Max Operating Temperature: 125°C; Output Voltage: 3.3V; Packaging: Tape and Reel; Output Current: 500mA; Max Output Current: 500mA; Number of Regulators: 1; Min Output Voltage: 3.3V; Output Voltage Accuracy: 1%; Length: 2.9mm; Height: 1.3mm; Width: 1.6mm; Radiation Hardening: No; Lead Free: Lead Free; ComponentLink1URL: https://www.exar.com/content/document.ashx?id=22106&src-supplier=Digi-Key; ComponentLink1Description: https://www.exar.com/content/document.ashx?id=22106&src-supplier=Digi-Key; ComponentLink2URL: http://www1.futureelectronics.com/doc/EXAR/spx3819_Series.pdf?src-supplier=Future+Electronics; ComponentLink2Description: http://www1.futureelectronics.com/doc/EXAR/spx3819_Series.pdf?src-supplier=Future+Electronics; Package Quantity: 1; ComponentLink3URL: http://www.intersil.com/content/dam/Intersil/documents/isl9/isl9016.pdf?src-supplier=Digi-Key; ComponentLink3Description: http://www.intersil.com/content/dam/Intersil/documents/isl9/isl9016.pdf?src-supplier=Digi-Key; ComponentLink4URL: http://www.intersil.com/content/dam/Intersil/documents/isl9/isl9016.pdf?src-supplier=Avnet; ComponentLink4Description: http://www.intersil.com/content/dam/Intersil/documents/isl9/isl9016.pdf?src-supplier=Avnet; Manufacturer Part Number: SPX3819M5-L-3-3/TR; Supplier Part Number 1: 1016-1873-1-ND
footprint SOT95P280X145-5N (SOT23, 5-Leads, Body 2.90x2.80mm, Pitch 0.95mm, IPC Medium Density)
pins: 1 Vin, 2 GND, 3 ON/~{OFF}, 4 BYPASS, 5 Vout

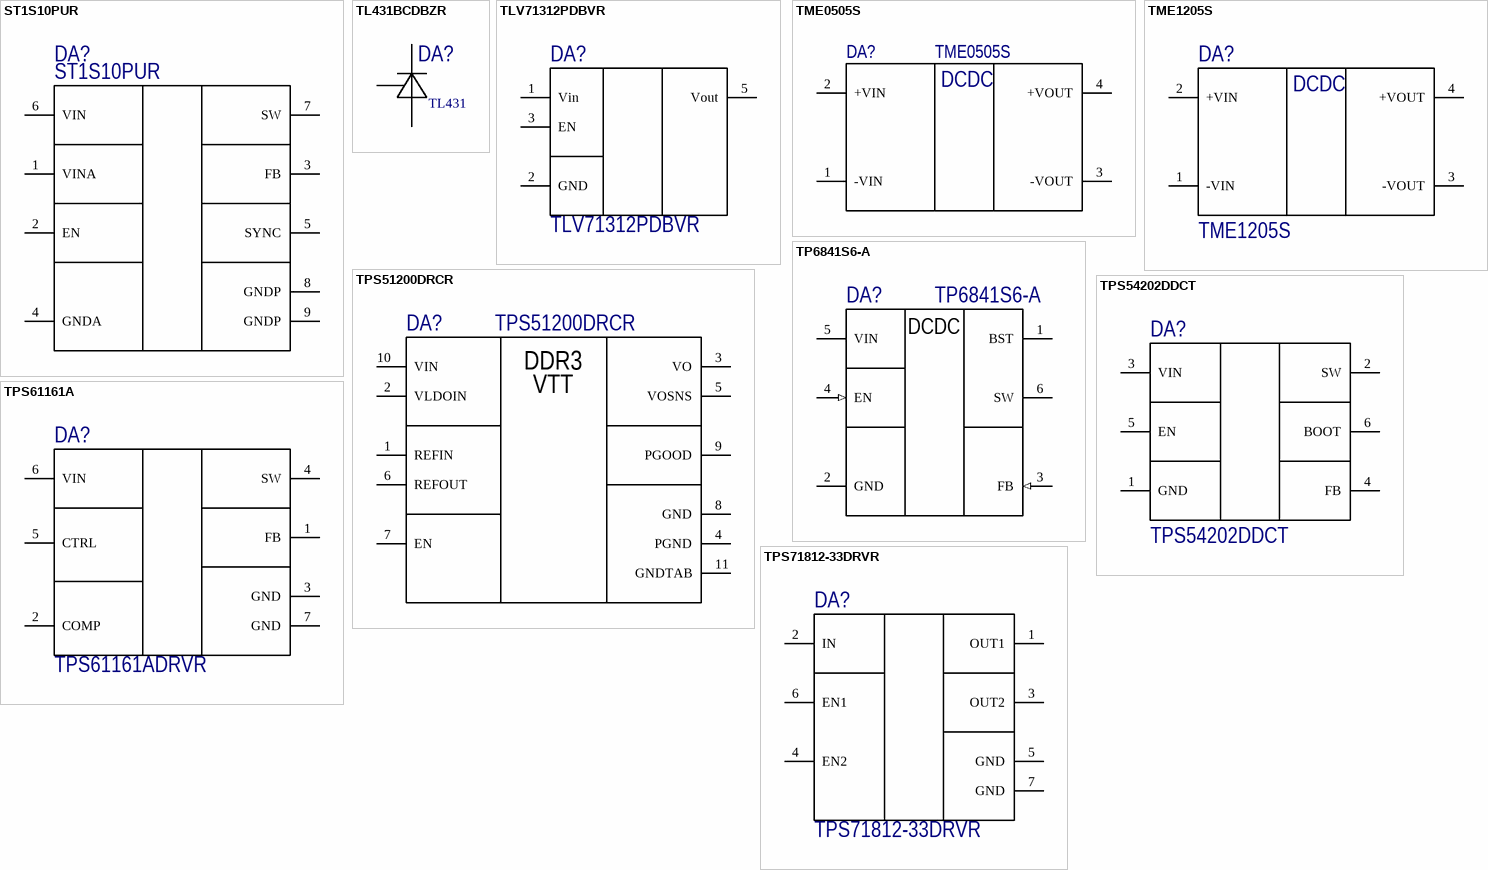
[diagram p1: symbols ST1S10PUR to TPS71812-33DRVR]

## ST1S10PUR
designator DA?
IC REG BUCK ADJ 3A SYNC DFN8; Manufacturer: STMicroelectronics; Output Voltage: 15.3V; Number of Outputs: 1; Min Input Voltage: 2.5V; Max Input Voltage: 18V; Switching Frequency: 1.2MHz; Efficiency: 90%; Synchronous Rectifier: Yes; Min Output Voltage: 800mV; Quiescent Current: 2.5mA; Output Type: Adjustable; Supplier 1: Digi-Key; Manufacturer Part Number: ST1S10PUR; Stock 1: 13825; Pricing 1: 1=1.78, 10=1.602, 100=1.2878, 500=1.05806, 1000=0.87668 (USD); Mount: Surface Mount; Case/Package: DFN; Number of Pins: 8; Weight: 0.001319oz; Min Operating Temperature: -25°C; Max Operating Temperature: 125°C; Package Quantity: 4500; Output Current: 3A; Operating Supply Voltage: 18V; Packaging: Tape and Reel; Max Output Current: 3A; Max Output Voltage: 15.3V; Max Duty Cycle: 90%; Length: 4mm; Height: 0.9mm; Width: 4mm; Radiation Hardening: No; Lead Free: Lead Free; REACH SVHC: No SVHC; Supplier Part Number 1: 497-6313-1-ND; РКД Наименование: *
footprint SON80P400X100_HS-9N (SON, 8-Leads, Body 4,00x4,00mm, Pitch 0,80mm, Thermal Pad 3,03x2,29mm, IPC Medium Density)
pins: 1 VINA, 2 EN, 3 FB, 4 GNDA, 5 SYNC, 6 VIN, 7 SW, 8 GNDP, 9 GNDP

## TL431BCDBZR
designator DA?  ShortName: TL431  (hidden comment: TL431BCDBZR)
VOLTAGE REF, SHUNT, 2.495V-36V, SOT-23-3; Reference Type:Shunt - Adjustable; Reference Voltage:2.495V to 36V; Initial Accuracy:0.5%; Temperature Coefficient:-; Voltage Reference Case Style:SOT-23; No. of Pins:3; Operating Temperature;RoHS Compliant: Yes; Manufacturer: Texas Instruments; Reference Type: Shunt,Adjustable; Tolerance: 0.5%; Max Output Current: 100mA; Max Input Voltage: 37V; Cathode Current: 600uA; Number of Channels: 1; Temperature Coefficient: 92ppm/°C; Supplier 1: Digi-Key; Manufacturer Part Number: TL431BCDBZR; RoHS: Yes; Category: Voltage References; Stock 1: 2419; Pricing 1: 1=0,54000, 10=0,43800, 25=0,40120, 100=0,27050, 250=0,22388, 500=0,20522, 1000=0,15391 (USD); Case/Package: SOT-23; Number of Pins: 3; Min Operating Temperature: -40°C; Max Operating Temperature: 125°C; Packaging: Tape and Reel; Output Voltage: 36V; Output Current: 100mA; Max Output Voltage: 36V; Package Quantity: 1; Reference Voltage: 36V; Radiation Hardening: No; RoHS Compliant: Yes; Lead Free: Lead Free; REACH SVHC: No SVHC; ComponentLink1URL: https://datasheet.ciiva.com/15148/getdatasheetpartid-171582-15148972.pdf?src-supplier=Verical; ComponentLink1Description: https://datasheet.ciiva.com/15148/getdatasheetpartid-171582-15148972.pdf?src-supplier=Verical; ComponentLink2URL: https://datasheet.ciiva.com/14366/tl432b-14366069.pdf?src-supplier=Avnet; ComponentLink2Description: https://datasheet.ciiva.com/14366/tl432b-14366069.pdf?src-supplier=Avnet; ComponentLink3URL: https://datasheet.ciiva.com/2006/tl431a-2006360.pdf?src-supplier=Digi-Key; ComponentLink3Description: https://datasheet.ciiva.com/2006/tl431a-2006360.pdf?src-supplier=Digi-Key; ComponentLink4URL: https://datasheet.ciiva.com/2006/tl431a-2006361.pdf?src-supplier=Digi-Key; ComponentLink4Description: https://datasheet.ciiva.com/2006/tl431a-2006361.pdf?src-supplier=Digi-Key; ComponentLink5URL: https://datasheet.ciiva.com/2006/tl431a-2006362.pdf?src-supplier=Digi-Key; ComponentLink5Description: https://datasheet.ciiva.com/2006/tl431a-2006362.pdf?src-supplier=Digi-Key; ComponentLink6URL: https://datasheet.ciiva.com/26264/tl432b-26264203.pdf?src-supplier=Avnet+Europe; ComponentLink6Description: https://datasheet.ciiva.com/26264/tl432b-26264203.pdf?src-supplier=Avnet+Europe; Supplier Part Number 1: 296-18866-1-ND
footprint SOT95P232X100-3N (SOT23, 3-Leads, Body 2.92x2.32mm, Pitch 0.95mm, IPC Medium Density)
pins: 1 C, 2 REF, 3 A

## TLV71312PDBVR
designator DA?
LDO Voltage Regulators 150-mA LDO Reg w/ Foldbk Current Limit; Manufacturer: Texas Instruments; Dropout Voltage: 600mV; Number of Outputs: 1; Min Input Voltage: 1.4V; Max Input Voltage: 5.5V; Max Output Current: 150mA; Output Voltage: 1.2V; Min Current Limit: 180mA; Polarity: Positive; Accuracy: 1%; Power Supply Rejection Ratio (PSRR): 70dB; Quiescent Current: 50uA; Output Type: Fixed; Supplier 1: Digi-Key; Manufacturer Part Number: TLV71312PDBVR; Stock 1: 30621; Pricing 1: 1=0.42, 10=0.339, 100=0.2307, 500=0.17304, 1000=0.12978 (USD); Mount: Surface Mount; Case/Package: SOT-23; Number of Pins: 5; Contact Plating: Gold; Min Operating Temperature: -40°C; Max Operating Temperature: 125°C; Package Quantity: 1; Packaging: Tape and Reel; Output Current: 150mA; Number of Regulators: 1; Nominal Output Voltage: 1.2V; Output Voltage Accuracy: 1%; Radiation Hardening: No; REACH SVHC: No SVHC; Lead Free: Lead Free; Supplier Part Number 1: 296-35589-1-ND; РКД Наименование: *
footprint SOT95P280X110-5N (SOT23, 5-Leads, Body 2,90x2,80mm, Pitch 0,95mm, IPC Medium Density)
pins: 1 Vin, 2 GND, 3 EN, 5 Vout

## TME0505S
designator DA?
TRACOPOWER - TME 0505S - CONV, DC TO DC, SINGLE O/P, 1W, 0.2A, 5V; Number of Outputs: 1; Max Output Current: 200mA; Efficiency: 70%; Min Input Voltage: 4.5V; Max Input Voltage: 5.5V; Isolation Voltage: 1kV; Isolation: Isolated; Supplier 1: Digi-Key; Manufacturer: Traco Power; Manufacturer Part Number: TME0505S; RoHS: Yes; Category: Board Mount Modules; Stock 1: 771; Pricing 1: 1=4,60000, 10=4,47100, 25=4,33960, 50=4,20800, 100=4,07650, 250=3,94500, 500=3,68200 (USD); Mount: Through Hole; Case/Package: SIP; Number of Pins: 4; Weight: 1.3g; Min Operating Temperature: -40°C; Max Operating Temperature: 85°C; Nominal Output Voltage: 5V; Output Current: 200mA; Output Voltage: 5V; Power Rating: 1W; Operating Supply Voltage: 5V; Nominal Input Voltage: 5V; Output Power: 1W; Min Input Voltage (DC): 4.5V; Max Input Voltage (DC): 5.5V; Max Output Power: 1W; Voltage - Output 1: 5V; Current - Output 1: 200mA; Length: 11.5mm; Width: 6.1mm; Height: 10.2mm; Depth: 6mm; Radiation Hardening: No; REACH SVHC: No SVHC; Flammability Rating: UL94 V-0; RoHS Compliant: Yes; ComponentLink1URL: https://datasheet.ciiva.com/11837/0900766b80e182ef-11837284.pdf?src-supplier=RSComponents; ComponentLink1Description: https://datasheet.ciiva.com/11837/0900766b80e182ef-11837284.pdf?src-supplier=RSComponents; ComponentLink2URL: https://datasheet.ciiva.com/29185/154371-da-01-de-tme-0505s-29185774.pdf?src-supplier=Conrad; ComponentLink2Description: https://datasheet.ciiva.com/29185/154371-da-01-de-tme-0505s-29185774.pdf?src-supplier=Conrad; ComponentLink3URL: https://datasheet.ciiva.com/48436/tme-eng-tds-48436727.pdf?src-supplier=Distrelec; ComponentLink3Description: https://datasheet.ciiva.com/48436/tme-eng-tds-48436727.pdf?src-supplier=Distrelec; ComponentLink4URL: https://datasheet.ciiva.com/18019/getdatasheetpartid-467633-18019290.pdf?src-supplier=Verical; ComponentLink4Description: https://datasheet.ciiva.com/18019/getdatasheetpartid-467633-18019290.pdf?src-supplier=Verical; ComponentLink5URL: https://datasheet.ciiva.com/27832/1537625-27832575.pdf?src-supplier=Newark; ComponentLink5Description: https://datasheet.ciiva.com/27832/1537625-27832575.pdf?src-supplier=Newark; Supplier Part Number 1: 1951-2746-ND
footprint TME Traco (DC DC Traco)
pins: 1 -VIN, 2 +VIN, 3 -VOUT, 4 +VOUT
text: DCDC

## TME1205S
designator DA?
DC/DC converter 12 VDC 5 VDC 1 W, TME 1205S, Traco Power; Nominal Input Voltage: 12V; Output Voltage: 5V; Output Current: 200mA; Power Rating: 1W; Number of Outputs: 1; Efficiency: 71%; Min Input Voltage: 10.8V; Max Input Voltage: 13.2V; Isolation Voltage: 1kV; Isolation: Isolated; Power: Yes; Supplier 1: Digi-Key; Manufacturer: Traco Power; Manufacturer Part Number: TME1205S; RoHS: Yes; Category: Power Supply Modules; Stock 1: 401; Pricing 1: 1=5,09000, 10=4,94700, 25=4,80160, 50=4,65600, 100=4,51050, 250=4,36500, 500=4,07400 (USD); Mount: Through Hole; Case/Package: SIP; Number of Pins: 4; Weight: 1.3g; Min Operating Temperature: -40°C; Max Operating Temperature: 85°C; Max Output Current: 200mA; Output Power: 1W; Nominal Output Voltage: 5V; Operating Supply Voltage: 12V; Min Input Voltage (DC): 10.8V; Max Input Voltage (DC): 13.2V; Max Output Power: 1W; Voltage - Output 1: 5V; Current - Output 1: 200mA; Series: TME; Length: 11.5mm; Width: 6.1mm; Height: 10.2mm; Depth: 6mm; Radiation Hardening: No; REACH SVHC: No SVHC; Flammability Rating: UL94 V-0; RoHS Compliant: Yes; ComponentLink1URL: https://datasheet.ciiva.com/3355/tme-eng-tds-3355872.pdf?src-supplier=Distrelec; ComponentLink1Description: https://datasheet.ciiva.com/3355/tme-eng-tds-3355872.pdf?src-supplier=Distrelec; ComponentLink2URL: https://datasheet.ciiva.com/11836/0900766b80e182ef-11836912.pdf?src-supplier=RSComponents; ComponentLink2Description: https://datasheet.ciiva.com/11836/0900766b80e182ef-11836912.pdf?src-supplier=RSComponents; ComponentLink3URL: https://datasheet.ciiva.com/29185/154424-da-01-en-tme-1205s-29185648.pdf?src-supplier=Conrad; ComponentLink3Description: https://datasheet.ciiva.com/29185/154424-da-01-en-tme-1205s-29185648.pdf?src-supplier=Conrad; ComponentLink4URL: https://datasheet.ciiva.com/46395/664468-46395643.pdf?src-supplier=Element14; ComponentLink4Description: https://datasheet.ciiva.com/46395/664468-46395643.pdf?src-supplier=Element14; Supplier Part Number 1: 1951-2666-ND
footprint TME Traco (DC DC Traco)
pins: 1 -VIN, 2 +VIN, 3 -VOUT, 4 +VOUT
text: DCDC

## TP6841S6-A
designator DA?
40V 0.8A 800kHz Synchronous Step-Down Converter SOT23-6L; Manufacturer: Tech Public; Supplier 1: LCSC; Manufacturer Part Number: TP6841S6-A; RoHS: No; Category: Uncategorized; Supplier Part Number 1: C2844924
footprint SOT95P280X110-6N (SOT23, 6-Leads, Body 2,90x2,80mm, Pitch 0,95mm, IPC Medium Density)
pins: 1 BST, 2 GND (power), 3 FB (in), 4 EN (in), 5 VIN (power), 6 SW
text: DCDC

## TPS51200DRCR
designator DA?
TEXAS INSTRUMENTS - TPS51200DRCR - DDR TERMINATION, 3A, SON-10; Max Power Dissipation: 1.92W; Output Voltage: 3.5V; Number of Outputs: 1; Quiescent Current: 500uA; Reference Voltage: 1.8V; Polarity: Positive,Negative; Output Type: Adjustable,Fixed; Min Input Voltage: 2.3V; Nominal Output Voltage: 1.25V; Accuracy: 5%; Power Rating: 790mW; Supplier 1: Digi-Key; Manufacturer: Texas Instruments; Manufacturer Part Number: TPS51200DRCR; RoHS: Yes; Category: Voltage Regulators - Linear; Stock 1: 492691; Pricing 1: 1=0,80000, 10=0,71400, 25=0,67840, 100=0,52090, 250=0,46028, 500=0,43606, 1000=0,33915 (USD); Number of Pins: 10; Min Operating Temperature: -40°C; Max Operating Temperature: 85°C; Packaging: Tape and Reel; Package Quantity: 1; Output Current: 3A; Power Dissipation: 1.92W; Max Output Current: 3A; Max Input Voltage: 3.5V; Length: 3.1mm; Height: 0.95mm; Width: 3.1mm; Radiation Hardening: No; Lead Free: Lead Free; REACH SVHC: No SVHC; ComponentLink1URL: https://datasheet.ciiva.com/26910/tps51200drcr-26910761.pdf?src-supplier=IIIC; ComponentLink1Description: https://datasheet.ciiva.com/26910/tps51200drcr-26910761.pdf?src-supplier=IIIC; ComponentLink2URL: https://datasheet.ciiva.com/41462/001014815-da-01-en-ic-reg-sink-sou-tps51200drcr-vson-10-tid-41462660.pdf?src-supplier=Conrad; ComponentLink2Description: https://datasheet.ciiva.com/41462/001014815-da-01-en-ic-reg-sink-sou-tps51200drcr-vson-10-tid-41462660.pdf?src-supplier=Conrad; ComponentLink3URL: https://datasheet.ciiva.com/3224/tps51200-3224254.pdf?src-supplier=Avnet; ComponentLink3Description: https://datasheet.ciiva.com/3224/tps51200-3224254.pdf?src-supplier=Avnet; ComponentLink4URL: https://datasheet.ciiva.com/7993/1862503-7993311.pdf?src-supplier=Element14; ComponentLink4Description: https://datasheet.ciiva.com/7993/1862503-7993311.pdf?src-supplier=Element14; ComponentLink5URL: https://datasheet.ciiva.com/22746/1862503-22746727.pdf?src-supplier=Element14; ComponentLink5Description: https://datasheet.ciiva.com/22746/1862503-22746727.pdf?src-supplier=Element14; ComponentLink6URL: https://datasheet.ciiva.com/2077/tps51200-2077370.pdf?src-supplier=Digi-Key; ComponentLink6Description: https://datasheet.ciiva.com/2077/tps51200-2077370.pdf?src-supplier=Digi-Key; ComponentLink7URL: https://datasheet.ciiva.com/2077/tps51200-2077371.pdf?src-supplier=Digi-Key; ComponentLink7Description: https://datasheet.ciiva.com/2077/tps51200-2077371.pdf?src-supplier=Digi-Key; ComponentLink8URL: https://datasheet.ciiva.com/2077/tps51200-2077372.pdf?src-supplier=Digi-Key; ComponentLink8Description: https://datasheet.ciiva.com/2077/tps51200-2077372.pdf?src-supplier=Digi-Key; ComponentLink9URL: https://datasheet.ciiva.com/3224/tps51200-3224253.pdf?src-supplier=Avnet; ComponentLink9Description: https://datasheet.ciiva.com/3224/tps51200-3224253.pdf?src-supplier=Avnet; Supplier Part Number 1: 296-26978-1-ND
footprint SON50P300X100_HS-11N (SON, 10-Leads, Body 3,00x3,00mm, Pitch 0,50mm, Thermal Pad 2,40x1,49mm, IPC Medium Density)
pins: 1 REFIN, 2 VLDOIN, 3 VO, 4 PGND, 5 VOSNS, 6 REFOUT, 7 EN, 8 GND, 9 PGOOD, 10 VIN, 11 GNDTAB
text: DDR3; VTT

## TPS54202DDCT
designator DA?
IC REG BUCK ADJ 2A SYNC SOT23-6; Manufacturer: Texas Instruments; Switching Frequency: 500kHz; Quiescent Current: 40uA; Number of Outputs: 1; Min Input Voltage: 4.5V; Max Input Voltage: 28V; Min Output Voltage: 596mV; Output Voltage: 26V; Synchronous Rectifier: Yes; Output Type: Adjustable; Output Configuration: Positive; Supplier 1: Digi-Key; Manufacturer Part Number: TPS54202DDCT; Stock 1: 15830; Pricing 1: 1=1,57000, 10=1,41100, 100=1,06500 (USD); RoHS: Yes; Mount: Surface Mount; Case/Package: SOT-23-6; Number of Pins: 6; Min Operating Temperature: -40°C; Max Operating Temperature: 125°C; Output Current: 2A; Packaging: Cut Tape; Max Output Voltage: 28V; Lead Free: Lead Free; REACH SVHC: No SVHC; ComponentLink1URL: http://www.ti.com/lit/ds/symlink/tps54202.pdf?src-supplier=Farnell; ComponentLink1Description: http://www.ti.com/lit/ds/symlink/tps54202.pdf?src-supplier=Farnell; ComponentLink2URL: http://www.ti.com/general/docs/lit/getliterature.tsp?genericPartNumber=TPS54202&&fileType=pdf&src-supplier=Element14; ComponentLink2Description: http://www.ti.com/general/docs/lit/getliterature.tsp?genericPartNumber=TPS54202&&fileType=pdf&src-supplier=Element14; ComponentLink3URL: http://www.ti.com/lit/ds/symlink/tps54202.pdf?src-supplier=Newark; ComponentLink3Description: http://www.ti.com/lit/ds/symlink/tps54202.pdf?src-supplier=Newark; ComponentLink4URL: http://www.ti.com/lit/ds/symlink/tps54202.pdf?src-supplier=Digi-Key; ComponentLink4Description: http://www.ti.com/lit/ds/symlink/tps54202.pdf?src-supplier=Digi-Key; Supplier Part Number 1: 296-44151-1-ND
footprint SOT95P280X110-6N (SOT23, 6-Leads, Body 2,90x2,80mm, Pitch 0,95mm, IPC Medium Density)
pins: 1 GND (power), 2 SW, 3 VIN (power), 4 FB, 5 EN, 6 BOOT

## TPS61161A
designator DA?, comment TPS61161ADRVR
IC LED DRIVER WHITE BCKLGT 6SON; Manufacturer: Texas Instruments; Output Current: 85mA; Max Power Dissipation: 1.54W; Number of Outputs: 1; Frequency: 700kHz; Max Supply Voltage: 18V; Min Supply Voltage: 2.7V; Max Supply Current: 1.8mA; Output Voltage: 38V; Number of Segments: 10; Low Level Output Current: 100uA; Quiescent Current: 1.5mA; Topology: Boost; Supplier 1: Digi-Key; Manufacturer Part Number: TPS61161ADRVR; Stock 1: 27247; Pricing 1: 1=1.32, 10=1.176, 100=0.9168, 500=0.75736, 1000=0.59792 (USD); Number of Pins: 6; Contact Plating: Gold; Min Operating Temperature: -40°C; Max Operating Temperature: 85°C; Packaging: Tape and Reel; Package Quantity: 3000; Max Input Voltage: 18V; Min Input Voltage: 2.7V; Power Dissipation: 1.54W; High Level Output Current: 100uA; Number of Channels: 1; Radiation Hardening: No; Lead Free: Lead Free; Supplier Part Number 1: 296-24512-6-ND; РКД Наименование: *
footprint PSON65P200X80_HS-7N (PSON, 6-Leads, Body 2.00x2.00mm, Pitch 0.65mm, Thermal Pad 1.60x0.96mm, IPC Medium Density)
pins: 1 FB, 2 COMP, 3 GND, 4 SW, 5 CTRL, 6 VIN, 7 GND